# EAGLE library part 8022 (library micro-intel)
MICROCOMPUTER/PERIPHERAL DEVICE
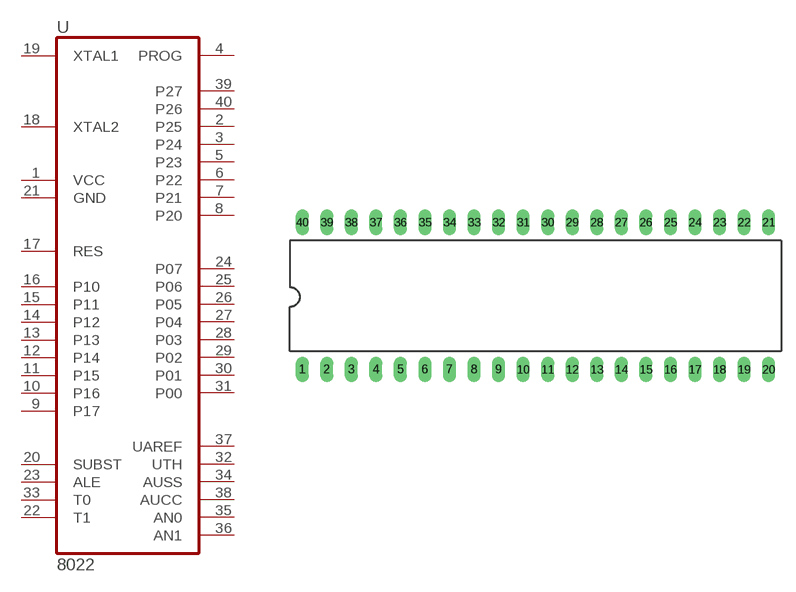
[diagram p14: symbol with the pads of DIL40; footprint DIL40]

Designator prefix U

## 8022  [DIL40]
1  VCC  pwr
2  P25
3  P24
4  PROG  out
5  P23
6  P22
7  P21
8  P20
9  P17
10  P16
11  P15
12  P14
13  P13
14  P12
15  P11
16  P10
17  RES  in
18  XTAL2  in
19  XTAL1  in
20  SUBST  in
21  GND  pwr
22  T1  in
23  ALE  out
24  P07
25  P06
26  P05
27  P04
28  P03
29  P02
30  P01
31  P00
32  UTH  pwr
33  T0
34  AUSS  pwr
35  AN0  in
36  AN1  in
37  UAREF  pwr
38  AUCC  pwr
39  P27
40  P26

## Footprint DIL40 (pad centres in mm)
Dual In Line Package
drill 0.813 long: 1 -24.13,-7.62; 2 -21.59,-7.62; 3 -19.05,-7.62; 4 -16.51,-7.62; 5 -13.97,-7.62; 6 -11.43,-7.62; 7 -8.89,-7.62; 8 -6.35,-7.62; 9 -3.81,-7.62; 10 -1.27,-7.62; 11 1.27,-7.62; 12 3.81,-7.62; 13 6.35,-7.62; 14 8.89,-7.62; 15 11.43,-7.62; 16 13.97,-7.62; 17 16.51,-7.62; 18 19.05,-7.62; 19 21.59,-7.62; 20 24.13,-7.62; 21 24.13,7.62; 22 21.59,7.62; 23 19.05,7.62; 24 16.51,7.62; 25 13.97,7.62; 26 11.43,7.62; 27 8.89,7.62; 28 6.35,7.62; 29 3.81,7.62; 30 1.27,7.62; 31 -1.27,7.62; 32 -3.81,7.62; 33 -6.35,7.62; 34 -8.89,7.62; 35 -11.43,7.62; 36 -13.97,7.62; 37 -16.51,7.62; 38 -19.05,7.62; 39 -21.59,7.62; 40 -24.13,7.62